# Altium footprint library USB_3.0.PcbLib: 1 footprints
Each footprint in its own frame and in the unit in brackets; x right, y up, seen from the top. Pads: shape width x height; smd on the part's side, far side on the other; paste and mask are expansions set on the pad; w line width, h text height; cw(c..) or ccw(c..) is an arc to the next point about the centre after c.
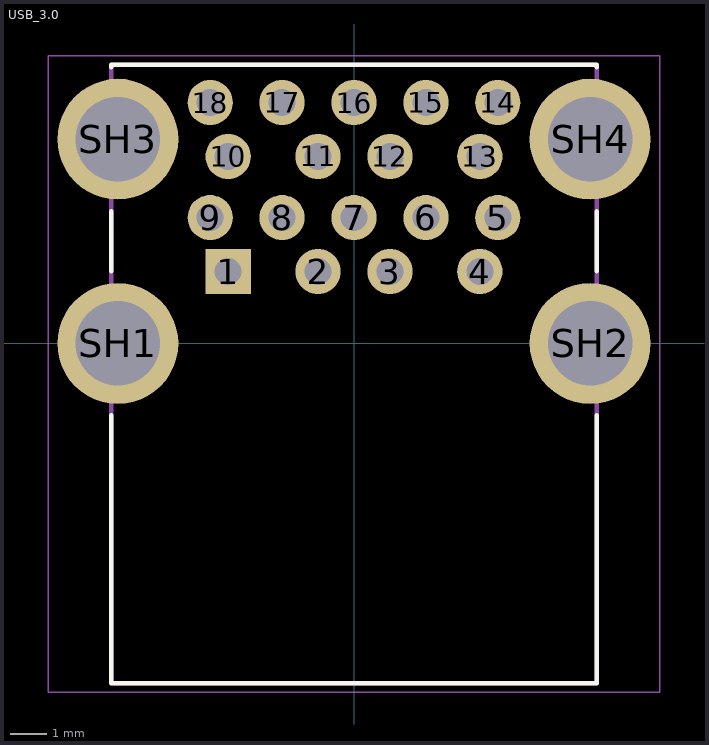
[diagram p0: the footprint, top view; thin cyan lines are the x and y axes]

## USB_3.0 [mm]
height 16
pads (22):
  rect 1.258x1.258 / inner round 1.258 / far side rect 1.258x1.258 hole 0.75: 1(-3.5,2)
  round 1.258 hole 0.75: 2(-1,2) 3(1,2) 4(3.5,2) 5(4,3.5) 6(2,3.5) 7(0,3.5) 8(-2,3.5) 9(-4,3.5) 10(-3.5,5.2) 11(-1,5.2) 12(1,5.2) 13(3.5,5.2) 14(4,6.7) 15(2,6.7) 16(0,6.7) 17(-2,6.7) 18(-4,6.7)
  round 3.366 hole 2.35: SH1(-6.57,0) SH2(6.57,0) SH3(-6.57,5.68) SH4(6.57,5.68)
Top Overlay:
  lines w0.127: -6.75,-2.003 -6.75,-9.45 6.75,-9.45 6.75,-2.003 ; -6.75,2.003 -6.75,3.677 ; -6.75,7.683 -6.75,7.75 6.75,7.75 6.75,7.683 ; 6.75,2.003 6.75,3.677
Mechanical 13:
  lines w0.127: -6.75,-9.45 6.75,-9.45 6.75,7.75 -6.75,7.75 -6.75,-9.45
Mechanical 15:
  lines w0.05: -8.503,-9.7 -8.503,8 8.503,8 8.503,-9.7 -8.503,-9.7
3D body "step_temp.STEP": height 16.42, standoff -3.2, extent -7.8,-8.6 7.8,8.6